# Altium integrated library MCU-AT89S52-24AU_TQFP44_.IntLib: 1 symbol
Pins are listed as number, name and electrical type; pins without a type are passive.

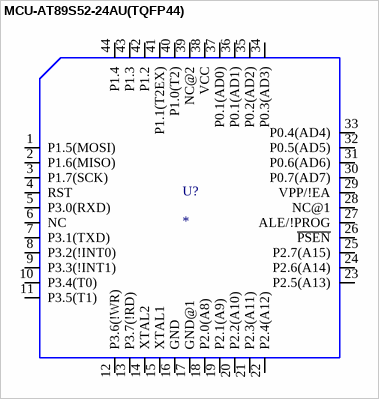
[diagram p0: symbol MCU-AT89S52-24AU(TQFP44)]

## MCU-AT89S52-24AU(TQFP44)
designator U?
8051 series Microcontroller IC 8-Bit 24MHz 8KB (8K x 8) FLASH 44-TQFP (10x10); MP: AT89S52-24AU; MF: Microchip; SnapEDA_Link: https://www.snapeda.com/parts/AT89S52-24AU/Microchip/view-part/38846/?ref=snap; Package: TQFP-44 Microchip; Purchase-URL: https://pricing.snapeda.com/search/part/AT89S52-24AU/?ref=eda; Availability: In Stock; Price: None; Check_prices: https://www.snapeda.com/parts/AT89S52-24AU/Microchip/view-part/38846/?ref=eda; Value: *
footprint TQFP44-0.8-9.6X9.6MM
pins: 1 P1.5(MOSI) (io), 2 P1.6(MISO) (io), 3 P1.7(SCK) (io), 4 RST (io), 5 P3.0(RXD) (io), 6 NC (io), 7 P3.1(TXD) (io), 8 P3.2(!INT0) (io), 9 P3.3(!INT1) (io), 10 P3.4(T0) (io), 11 P3.5(T1) (io), 12 P3.6(!WR) (io), 13 P3.7(!RD) (io), 14 XTAL2 (io), 15 XTAL1 (io), 16 GND (io), 17 GND@1 (io), 18 P2.0(A8) (io), 19 P2.1(A9) (io), 20 P2.2(A10) (io), 21 P2.3(A11) (io), 22 P2.4(A12) (io), 23 P2.5(A13) (io), 24 P2.6(A14) (io), 25 P2.7(A15) (io), 26 ~{PSEN} (io), 27 ALE/!PROG (io), 28 NC@1 (io), 29 VPP/!EA (io), 30 P0.7(AD7) (io), 31 P0.6(AD6) (io), 32 P0.5(AD5) (io), 33 P0.4(AD4) (io), 34 P0.3(AD3) (io), 35 P0.2(AD2) (io), 36 P0.1(AD1) (io), 37 P0.1(AD0) (io), 38 VCC (io), 39 NC@2 (io), 40 P1.0(T2) (io), 41 P1.1(T2EX) (io), 42 P1.2 (io), 43 P1.3 (io), 44 P1.4 (io)